# EAGLE library part 2364 (library commodore)
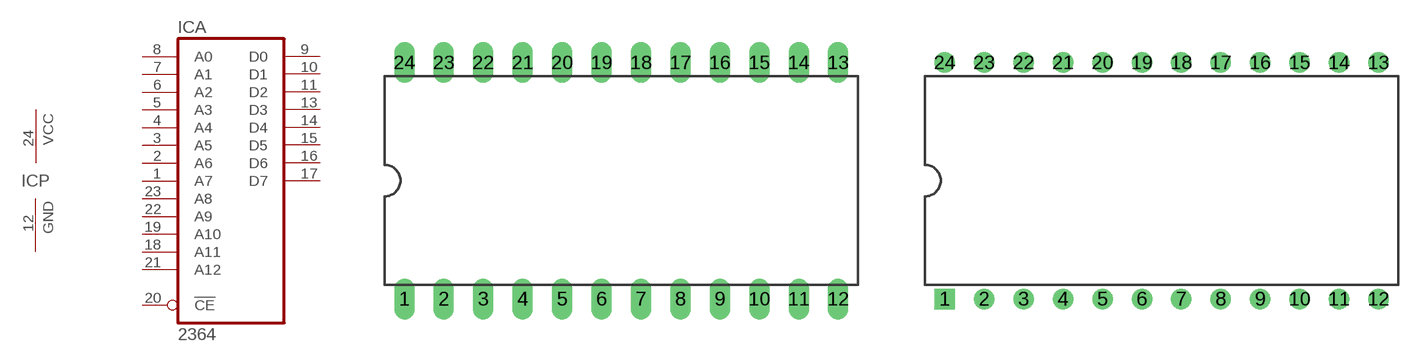
[diagram p13: symbol with the pads of DIL24; footprints DIL24, DIL24-ROUNDPAD]

Designator prefix IC; gates A=2364 P=PWR-GND

## 2364  [DIL24]
1  A:A7
2  A:A6
3  A:A5
4  A:A4
5  A:A3
6  A:A2
7  A:A1
8  A:A0
9  A:D0  hiz
10  A:D1  hiz
11  A:D2  hiz
12  P:GND  pwr
13  A:D3  hiz
14  A:D4  hiz
15  A:D5  hiz
16  A:D6  hiz
17  A:D7  hiz
18  A:A11
19  A:A10
20  A:!CE  in
21  A:A12
22  A:A9
23  A:A8
24  P:VCC  pwr

## 2364-RP  [DIL24-ROUNDPAD]
Pads as for DIL24

## 2364-ST  [DIL24-SMD]
Pads as for DIL24

## 2364-SB  [DIL24-SMD-REVERSE]
Pads as for DIL24

## Footprint DIL24 (pad centres in mm)
drill 0.813 long: 1 -13.97,-7.62; 2 -11.43,-7.62; 3 -8.89,-7.62; 4 -6.35,-7.62; 5 -3.81,-7.62; 6 -1.27,-7.62; 7 1.27,-7.62; 8 3.81,-7.62; 9 6.35,-7.62; 10 8.89,-7.62; 11 11.43,-7.62; 12 13.97,-7.62; 13 13.97,7.62; 14 11.43,7.62; 15 8.89,7.62; 16 6.35,7.62; 17 3.81,7.62; 18 1.27,7.62; 19 -1.27,7.62; 20 -3.81,7.62; 21 -6.35,7.62; 22 -8.89,7.62; 23 -11.43,7.62; 24 -13.97,7.62

## Footprint DIL24-ROUNDPAD (pad centres in mm)
drill 0.813 square: 1 -13.97,-7.62
drill 0.813: 2 -11.43,-7.62; 3 -8.89,-7.62; 4 -6.35,-7.62; 5 -3.81,-7.62; 6 -1.27,-7.62; 7 1.27,-7.62; 8 3.81,-7.62; 9 6.35,-7.62; 10 8.89,-7.62; 11 11.43,-7.62; 12 13.97,-7.62; 13 13.97,7.62; 14 11.43,7.62; 15 8.89,7.62; 16 6.35,7.62; 17 3.81,7.62; 18 1.27,7.62; 19 -1.27,7.62; 20 -3.81,7.62; 21 -6.35,7.62; 22 -8.89,7.62; 23 -11.43,7.62; 24 -13.97,7.62

## Footprint DIL24-SMD (pad centres in mm)
smd 1 x 3.5: 1 -13.97,-8.92; 2 -11.43,-8.92; 3 -8.89,-8.92; 4 -6.35,-8.92; 5 -3.81,-8.92; 6 -1.27,-8.92; 7 1.27,-8.92; 8 3.81,-8.92; 9 6.35,-8.92; 10 8.89,-8.92; 11 11.43,-8.92; 12 13.97,-8.92; 13 13.97,8.92; 14 11.43,8.92; 15 8.89,8.92; 16 6.35,8.92; 17 3.81,8.92; 18 1.27,8.92; 19 -1.27,8.92; 20 -3.81,8.92; 21 -6.35,8.92; 22 -8.89,8.92; 23 -11.43,8.92; 24 -13.97,8.92

## Footprint DIL24-SMD-REVERSE (pad centres in mm)
smd 1 x 3.5 bottom: 1 -13.97,-8.92; 2 -11.43,-8.92; 3 -8.89,-8.92; 4 -6.35,-8.92; 5 -3.81,-8.92; 6 -1.27,-8.92; 7 1.27,-8.92; 8 3.81,-8.92; 9 6.35,-8.92; 10 8.89,-8.92; 11 11.43,-8.92; 12 13.97,-8.92; 13 13.97,8.92; 14 11.43,8.92; 15 8.89,8.92; 16 6.35,8.92; 17 3.81,8.92; 18 1.27,8.92; 19 -1.27,8.92; 20 -3.81,8.92; 21 -6.35,8.92; 22 -8.89,8.92; 23 -11.43,8.92; 24 -13.97,8.92